# Altium integrated library ON Semi Signal Management Digital POTs.IntLib: 284 symbols (part 9 of 11)
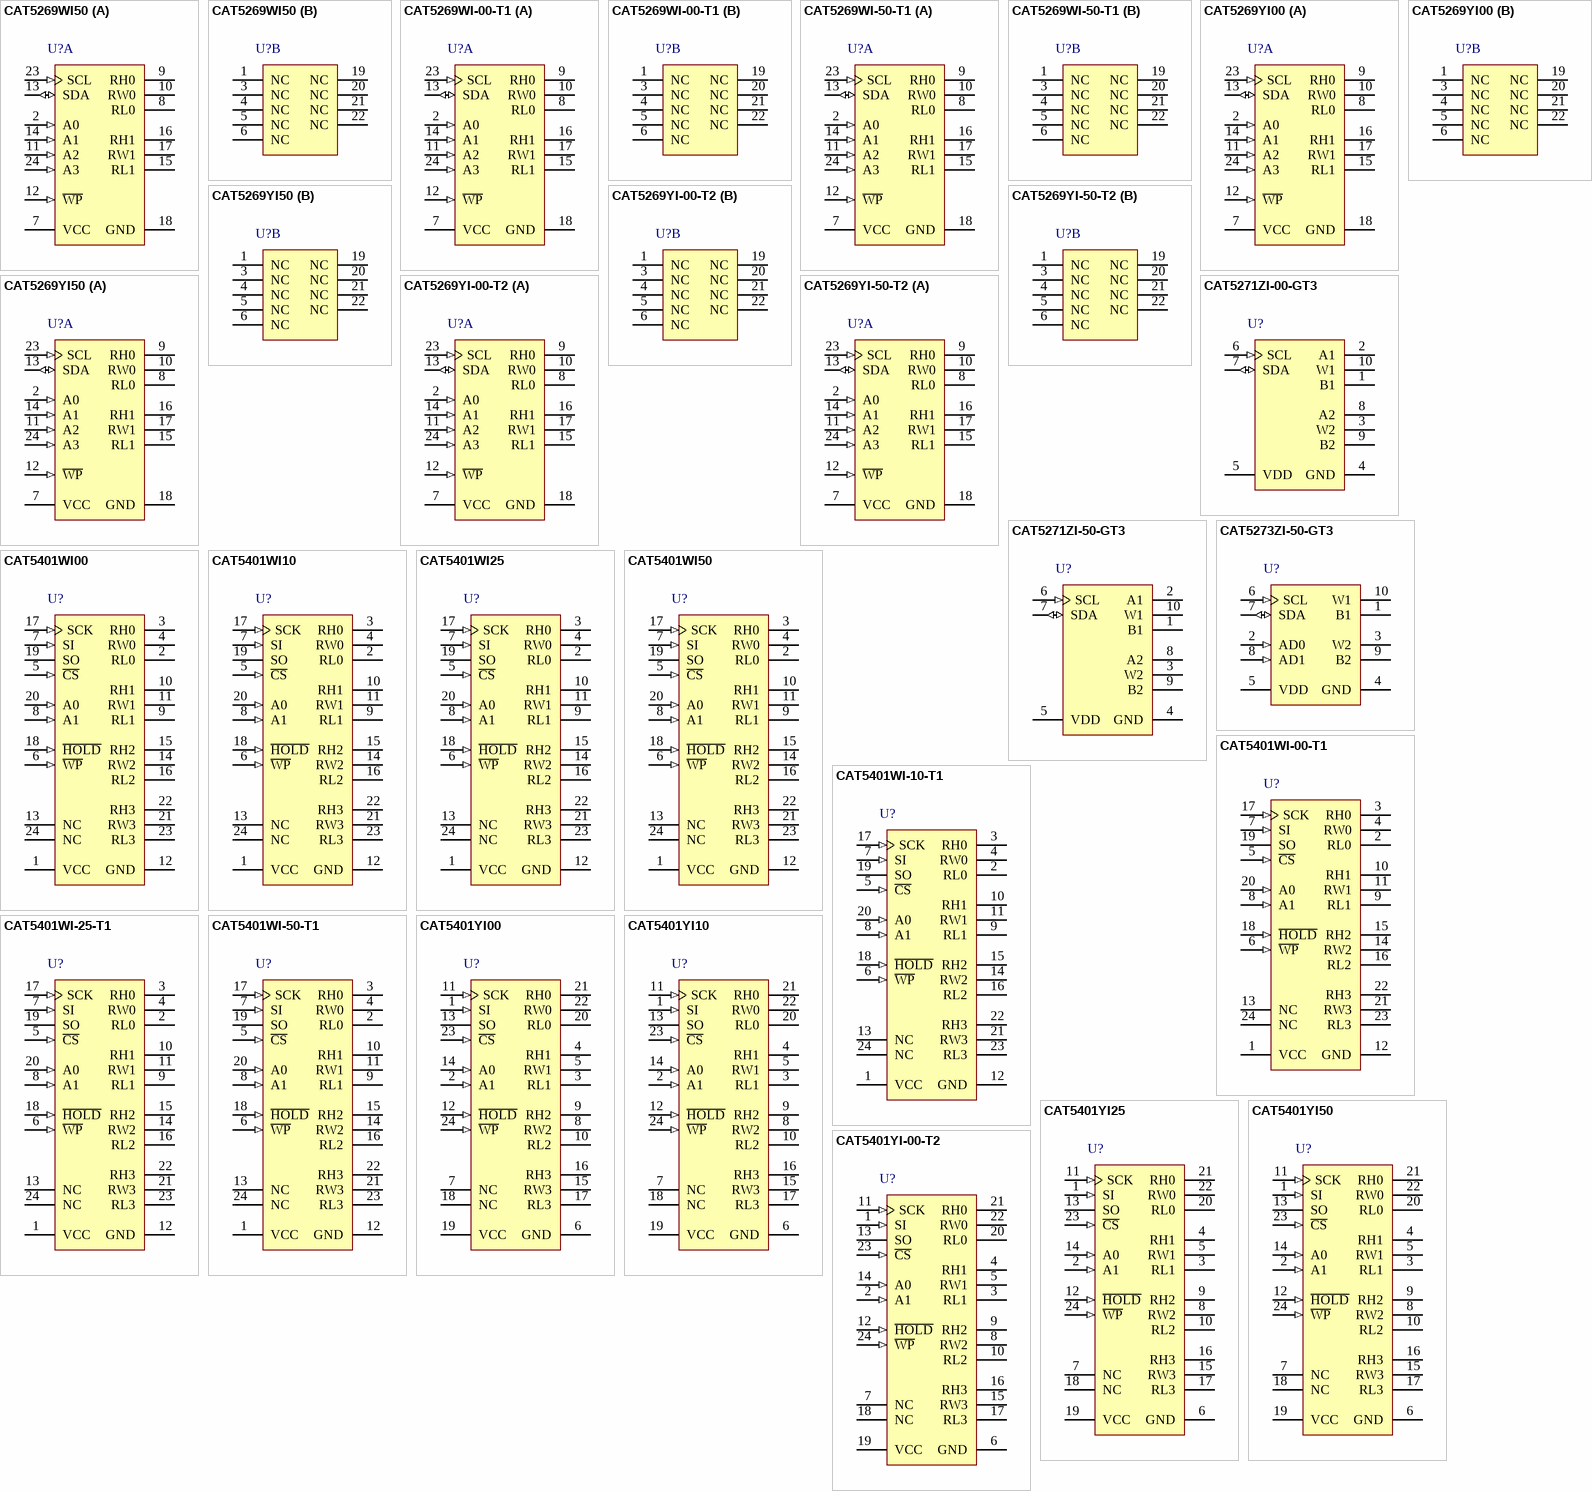
[diagram p17: symbols CAT5269WI50 to CAT5401YI-00-T2]

## CAT5401WI-10-T1
designator U?
Quad Digital Potentiometer (POT) with 64 Tap and SPI Interface, -40 to 85 degC, 24-Pin SOIC, Pb-Free, Tape and Reel; Manufacturer: On Semiconductor; PartNumber: CAT5401WI-10-T1; # of Pots: 4; # of Taps: 64; VDD Max (V): 6; DatasheetVersion: Rev. 11; PackageVersion: Rev. O, 12/2008; PackageReference: SOIC-24-751BK-01; PackageDescription: 24-Pin Small Outline Integrated Circuit, Body 15.3 x 7.47 mm, Pitch 1.27 mm; Supplier 1: Digi-Key; Supplier Part Number 1: CAT5401WI-10-T1CT-ND; Supplier 2: Digi-Key; Supplier Part Number 2: CAT5401WI-10-T1DKR-ND; Supplier 3: Mouser; Supplier Part Number 3: 863-CAT5401WI-10-T1; Control Interface: SPI; Packing: Tape and Reel; RoHS: TRUE; Type: Potentiometer; Mounting Technology: Surface Mount; Code_JEDEC: MS-013; ComponentLink1Description: Manufacturer URL; ComponentLink1URL: http://www.onsemi.com/; ComponentLink2Description: Datasheet; ComponentLink2URL: http://www.onsemi.cn/pub_link/Collateral/CAT5401-D.PDF; ComponentLink3Description: Package Specification; ComponentLink3URL: http://www.onsemi.com/pub/Collateral/751BK.PDF
footprint ONSC-SOIC-24-751BK-01_N (SOIC, 24-Leads, Body 15.4x7.6mm, Pitch 1.27mm, IPC Medium Density)
footprint ONSC-SOIC-24-751BK-01_L (SOIC, 24-Leads, Body 15.4x7.6mm, Pitch 1.27mm, IPC High Density)
footprint ONSC-SOIC-24-751BK-01_M (SOIC, 24-Leads, Body 15.4x7.6mm, Pitch 1.27mm, IPC Low Density)
pins: 1 VCC (power) "Supply Voltage", 2 RL0 "Low Reference Terminal for Potentiometer 0", 3 RH0 "High Reference Terminal for Potentiometer 0", 4 RW0 "Wiper Terminal for Potentiometer 0", 5 ~{CS} (in) "Chip Select", 6 ~{WP} (in) "Write Protection", 7 SI (in) "Serial Input", 8 A1 (in) "Device Address", 9 RL1 "Low Reference Terminal for Potentiometer 1", 10 RH1 "High Reference Terminal for Potentiometer 1", 11 RW1 "Wiper Terminal for Potentiometer 1", 12 GND (power) "Ground", 13 NC "No Connect", 14 RW2 "Wiper Terminal forPotentiometer 2", 15 RH2 "High Reference Terminal for Potentiometer 2", 16 RL2 "Low Reference Terminal for Potentiometer 2", 17 SCK (in) "Bus Serial Clock", 18 ~{HOLD} (in) "Hold", 19 SO (hiz) "Serial Data Output", 20 A0 (in) "Device Address, LSB", 21 RW3 "Wiper Terminal for Potentiometer 3", 22 RH3 "High Reference Terminal for Potentiometer 3", 23 RL3 "Low Reference Terminal for Potentiometer 3", 24 NC "No Connect"

## CAT5401WI-25-T1
designator U?
Quad Digital Potentiometer (POT) with 64 Tap and SPI Interface, -40 to 85 degC, 24-Pin SOIC, Pb-Free, Tape and Reel; Manufacturer: On Semiconductor; PartNumber: CAT5401WI-25-T1; # of Pots: 4; # of Taps: 64; VDD Max (V): 6; DatasheetVersion: Rev. 11; PackageVersion: Rev. O, 12/2008; PackageReference: SOIC-24-751BK-01; PackageDescription: 24-Pin Small Outline Integrated Circuit, Body 15.3 x 7.47 mm, Pitch 1.27 mm; Supplier 1: Digi-Key; Supplier Part Number 1: CAT5401WI-25-T1-ND; Supplier 2: Mouser; Supplier Part Number 2: 698-CAT5401WI-25-T1; Control Interface: SPI; Packing: Tape and Reel; RoHS: TRUE; Type: Potentiometer; Mounting Technology: Surface Mount; Code_JEDEC: MS-013; ComponentLink1Description: Manufacturer URL; ComponentLink1URL: http://www.onsemi.com/; ComponentLink2Description: Datasheet; ComponentLink2URL: http://www.onsemi.cn/pub_link/Collateral/CAT5401-D.PDF; ComponentLink3Description: Package Specification; ComponentLink3URL: http://www.onsemi.com/pub/Collateral/751BK.PDF
footprint ONSC-SOIC-24-751BK-01_N (SOIC, 24-Leads, Body 15.4x7.6mm, Pitch 1.27mm, IPC Medium Density)
footprint ONSC-SOIC-24-751BK-01_L (SOIC, 24-Leads, Body 15.4x7.6mm, Pitch 1.27mm, IPC High Density)
footprint ONSC-SOIC-24-751BK-01_M (SOIC, 24-Leads, Body 15.4x7.6mm, Pitch 1.27mm, IPC Low Density)
pins: 1 VCC (power) "Supply Voltage", 2 RL0 "Low Reference Terminal for Potentiometer 0", 3 RH0 "High Reference Terminal for Potentiometer 0", 4 RW0 "Wiper Terminal for Potentiometer 0", 5 ~{CS} (in) "Chip Select", 6 ~{WP} (in) "Write Protection", 7 SI (in) "Serial Input", 8 A1 (in) "Device Address", 9 RL1 "Low Reference Terminal for Potentiometer 1", 10 RH1 "High Reference Terminal for Potentiometer 1", 11 RW1 "Wiper Terminal for Potentiometer 1", 12 GND (power) "Ground", 13 NC "No Connect", 14 RW2 "Wiper Terminal forPotentiometer 2", 15 RH2 "High Reference Terminal for Potentiometer 2", 16 RL2 "Low Reference Terminal for Potentiometer 2", 17 SCK (in) "Bus Serial Clock", 18 ~{HOLD} (in) "Hold", 19 SO (hiz) "Serial Data Output", 20 A0 (in) "Device Address, LSB", 21 RW3 "Wiper Terminal for Potentiometer 3", 22 RH3 "High Reference Terminal for Potentiometer 3", 23 RL3 "Low Reference Terminal for Potentiometer 3", 24 NC "No Connect"

## CAT5401WI-50-T1
designator U?
Quad Digital Potentiometer (POT) with 64 Tap and SPI Interface, -40 to 85 degC, 24-Pin SOIC, Pb-Free, Tape and Reel; Manufacturer: On Semiconductor; PartNumber: CAT5401WI-50-T1; # of Pots: 4; # of Taps: 64; VDD Max (V): 6; DatasheetVersion: Rev. 11; PackageVersion: Rev. O, 12/2008; PackageReference: SOIC-24-751BK-01; PackageDescription: 24-Pin Small Outline Integrated Circuit, Body 15.3 x 7.47 mm, Pitch 1.27 mm; Supplier 1: Digi-Key; Supplier Part Number 1: CAT5401WI-50-T1-ND; Supplier 2: Mouser; Supplier Part Number 2: 863-CAT5401WI-50-T1; Control Interface: SPI; Packing: Tape and Reel; RoHS: TRUE; Type: Potentiometer; Mounting Technology: Surface Mount; Code_JEDEC: MS-013; ComponentLink1Description: Manufacturer URL; ComponentLink1URL: http://www.onsemi.com/; ComponentLink2Description: Datasheet; ComponentLink2URL: http://www.onsemi.cn/pub_link/Collateral/CAT5401-D.PDF; ComponentLink3Description: Package Specification; ComponentLink3URL: http://www.onsemi.com/pub/Collateral/751BK.PDF
footprint ONSC-SOIC-24-751BK-01_N (SOIC, 24-Leads, Body 15.4x7.6mm, Pitch 1.27mm, IPC Medium Density)
footprint ONSC-SOIC-24-751BK-01_L (SOIC, 24-Leads, Body 15.4x7.6mm, Pitch 1.27mm, IPC High Density)
footprint ONSC-SOIC-24-751BK-01_M (SOIC, 24-Leads, Body 15.4x7.6mm, Pitch 1.27mm, IPC Low Density)
pins: 1 VCC (power) "Supply Voltage", 2 RL0 "Low Reference Terminal for Potentiometer 0", 3 RH0 "High Reference Terminal for Potentiometer 0", 4 RW0 "Wiper Terminal for Potentiometer 0", 5 ~{CS} (in) "Chip Select", 6 ~{WP} (in) "Write Protection", 7 SI (in) "Serial Input", 8 A1 (in) "Device Address", 9 RL1 "Low Reference Terminal for Potentiometer 1", 10 RH1 "High Reference Terminal for Potentiometer 1", 11 RW1 "Wiper Terminal for Potentiometer 1", 12 GND (power) "Ground", 13 NC "No Connect", 14 RW2 "Wiper Terminal forPotentiometer 2", 15 RH2 "High Reference Terminal for Potentiometer 2", 16 RL2 "Low Reference Terminal for Potentiometer 2", 17 SCK (in) "Bus Serial Clock", 18 ~{HOLD} (in) "Hold", 19 SO (hiz) "Serial Data Output", 20 A0 (in) "Device Address, LSB", 21 RW3 "Wiper Terminal for Potentiometer 3", 22 RH3 "High Reference Terminal for Potentiometer 3", 23 RL3 "Low Reference Terminal for Potentiometer 3", 24 NC "No Connect"

## CAT5401YI00
designator U?
Quad Digital Potentiometer (POT) with 64 Tap and SPI Interface, -40 to 85 degC, 24-Pin TSSOP, Pb-Free, Tube; Manufacturer: On Semiconductor; PartNumber: CAT5401YI00; # of Pots: 4; # of Taps: 64; VDD Max (V): 6; DatasheetVersion: Rev. 11; PackageVersion: Rev. A, 03/2009; PackageReference: TSSOP-24-948AR-01; PackageDescription: 24-Pin Small Outline Package, Body 7.8 x 4.4 mm, Pitch 0.65 mm; Supplier 1: Mouser; Supplier Part Number 1: 698-CAT5401YI-00; Control Interface: SPI; Packing: Tube; RoHS: TRUE; Type: Potentiometer; Mounting Technology: Surface Mount; Code_JEDEC: MO-153; ComponentLink1Description: Manufacturer URL; ComponentLink1URL: http://www.onsemi.com/; ComponentLink2Description: Datasheet; ComponentLink2URL: http://www.onsemi.cn/pub_link/Collateral/CAT5401-D.PDF; ComponentLink3Description: Package Specification; ComponentLink3URL: http://www.onsemi.com/pub_link/Collateral/948AR.PDF
footprint ONSC-TSSOP-24-948AR-01_N (SOP, 24-Leads, Body 7.9x4.5mm, Pitch 0.65mm, IPC Medium Density)
footprint ONSC-TSSOP-24-948AR-01_L (SOP, 24-Leads, Body 7.9x4.5mm, Pitch 0.65mm, IPC High Density)
footprint ONSC-TSSOP-24-948AR-01_M (SOP, 24-Leads, Body 7.9x4.5mm, Pitch 0.65mm, IPC Low Density)
pins: 1 SI (in) "Serial Input", 2 A1 (in) "Device Address", 3 RL1 "Low Reference Terminal for Potentiometer 1", 4 RH1 "High Reference Terminal for Potentiometer 1", 5 RW1 "Wiper Terminal for Potentiometer 1", 6 GND (power) "Ground", 7 NC "No Connect", 8 RW2 "Wiper Terminal forPotentiometer 2", 9 RH2 "High Reference Terminal for Potentiometer 2", 10 RL2 "Low Reference Terminal for Potentiometer 2", 11 SCK (in) "Bus Serial Clock", 12 ~{HOLD} (in) "Hold", 13 SO (hiz) "Serial Data Output", 14 A0 (in) "Device Address, LSB", 15 RW3 "Wiper Terminal for Potentiometer 3", 16 RH3 "High Reference Terminal for Potentiometer 3", 17 RL3 "Low Reference Terminal for Potentiometer 3", 18 NC "No Connect", 19 VCC (power) "Supply Voltage", 20 RL0 "Low Reference Terminal for Potentiometer 0", 21 RH0 "High Reference Terminal for Potentiometer 0", 22 RW0 "Wiper Terminal for Potentiometer 0", 23 ~{CS} (in) "Chip Select", 24 ~{WP} (in) "Write Protection"

## CAT5401YI10
designator U?
Quad Digital Potentiometer (POT) with 64 Tap and SPI Interface, -40 to 85 degC, 24-Pin TSSOP, Pb-Free, Tube; Manufacturer: On Semiconductor; PartNumber: CAT5401YI10; # of Pots: 4; # of Taps: 64; VDD Max (V): 6; DatasheetVersion: Rev. 11; PackageVersion: Rev. A, 03/2009; PackageReference: TSSOP-24-948AR-01; PackageDescription: 24-Pin Small Outline Package, Body 7.8 x 4.4 mm, Pitch 0.65 mm; Supplier 1: Mouser; Supplier Part Number 1: 698-CAT5401YI-10; Control Interface: SPI; Packing: Tube; RoHS: TRUE; Type: Potentiometer; Mounting Technology: Surface Mount; Code_JEDEC: MO-153; ComponentLink1Description: Manufacturer URL; ComponentLink1URL: http://www.onsemi.com/; ComponentLink2Description: Datasheet; ComponentLink2URL: http://www.onsemi.cn/pub_link/Collateral/CAT5401-D.PDF; ComponentLink3Description: Package Specification; ComponentLink3URL: http://www.onsemi.com/pub_link/Collateral/948AR.PDF
footprint ONSC-TSSOP-24-948AR-01_N (SOP, 24-Leads, Body 7.9x4.5mm, Pitch 0.65mm, IPC Medium Density)
footprint ONSC-TSSOP-24-948AR-01_L (SOP, 24-Leads, Body 7.9x4.5mm, Pitch 0.65mm, IPC High Density)
footprint ONSC-TSSOP-24-948AR-01_M (SOP, 24-Leads, Body 7.9x4.5mm, Pitch 0.65mm, IPC Low Density)
pins: 1 SI (in) "Serial Input", 2 A1 (in) "Device Address", 3 RL1 "Low Reference Terminal for Potentiometer 1", 4 RH1 "High Reference Terminal for Potentiometer 1", 5 RW1 "Wiper Terminal for Potentiometer 1", 6 GND (power) "Ground", 7 NC "No Connect", 8 RW2 "Wiper Terminal forPotentiometer 2", 9 RH2 "High Reference Terminal for Potentiometer 2", 10 RL2 "Low Reference Terminal for Potentiometer 2", 11 SCK (in) "Bus Serial Clock", 12 ~{HOLD} (in) "Hold", 13 SO (hiz) "Serial Data Output", 14 A0 (in) "Device Address, LSB", 15 RW3 "Wiper Terminal for Potentiometer 3", 16 RH3 "High Reference Terminal for Potentiometer 3", 17 RL3 "Low Reference Terminal for Potentiometer 3", 18 NC "No Connect", 19 VCC (power) "Supply Voltage", 20 RL0 "Low Reference Terminal for Potentiometer 0", 21 RH0 "High Reference Terminal for Potentiometer 0", 22 RW0 "Wiper Terminal for Potentiometer 0", 23 ~{CS} (in) "Chip Select", 24 ~{WP} (in) "Write Protection"

## CAT5401YI25
designator U?
Quad Digital Potentiometer (POT) with 64 Tap and SPI Interface, -40 to 85 degC, 24-Pin TSSOP, Pb-Free, Tube; Manufacturer: On Semiconductor; PartNumber: CAT5401YI25; # of Pots: 4; # of Taps: 64; VDD Max (V): 6; DatasheetVersion: Rev. 11; PackageVersion: Rev. A, 03/2009; PackageReference: TSSOP-24-948AR-01; PackageDescription: 24-Pin Small Outline Package, Body 7.8 x 4.4 mm, Pitch 0.65 mm; Supplier 1: Mouser; Supplier Part Number 1: 698-CAT5401YI-25; Control Interface: SPI; Packing: Tube; RoHS: TRUE; Type: Potentiometer; Mounting Technology: Surface Mount; Code_JEDEC: MO-153; ComponentLink1Description: Manufacturer URL; ComponentLink1URL: http://www.onsemi.com/; ComponentLink2Description: Datasheet; ComponentLink2URL: http://www.onsemi.cn/pub_link/Collateral/CAT5401-D.PDF; ComponentLink3Description: Package Specification; ComponentLink3URL: http://www.onsemi.com/pub_link/Collateral/948AR.PDF
footprint ONSC-TSSOP-24-948AR-01_N (SOP, 24-Leads, Body 7.9x4.5mm, Pitch 0.65mm, IPC Medium Density)
footprint ONSC-TSSOP-24-948AR-01_L (SOP, 24-Leads, Body 7.9x4.5mm, Pitch 0.65mm, IPC High Density)
footprint ONSC-TSSOP-24-948AR-01_M (SOP, 24-Leads, Body 7.9x4.5mm, Pitch 0.65mm, IPC Low Density)
pins: 1 SI (in) "Serial Input", 2 A1 (in) "Device Address", 3 RL1 "Low Reference Terminal for Potentiometer 1", 4 RH1 "High Reference Terminal for Potentiometer 1", 5 RW1 "Wiper Terminal for Potentiometer 1", 6 GND (power) "Ground", 7 NC "No Connect", 8 RW2 "Wiper Terminal forPotentiometer 2", 9 RH2 "High Reference Terminal for Potentiometer 2", 10 RL2 "Low Reference Terminal for Potentiometer 2", 11 SCK (in) "Bus Serial Clock", 12 ~{HOLD} (in) "Hold", 13 SO (hiz) "Serial Data Output", 14 A0 (in) "Device Address, LSB", 15 RW3 "Wiper Terminal for Potentiometer 3", 16 RH3 "High Reference Terminal for Potentiometer 3", 17 RL3 "Low Reference Terminal for Potentiometer 3", 18 NC "No Connect", 19 VCC (power) "Supply Voltage", 20 RL0 "Low Reference Terminal for Potentiometer 0", 21 RH0 "High Reference Terminal for Potentiometer 0", 22 RW0 "Wiper Terminal for Potentiometer 0", 23 ~{CS} (in) "Chip Select", 24 ~{WP} (in) "Write Protection"

## CAT5401YI50
designator U?
Quad Digital Potentiometer (POT) with 64 Tap and SPI Interface, -40 to 85 degC, 24-Pin TSSOP, Pb-Free, Tube; Manufacturer: On Semiconductor; PartNumber: CAT5401YI50; # of Pots: 4; # of Taps: 64; VDD Max (V): 6; DatasheetVersion: Rev. 11; PackageVersion: Rev. A, 03/2009; PackageReference: TSSOP-24-948AR-01; PackageDescription: 24-Pin Small Outline Package, Body 7.8 x 4.4 mm, Pitch 0.65 mm; Supplier 1: Mouser; Supplier Part Number 1: 698-CAT5401YI-50; Control Interface: SPI; Packing: Tube; RoHS: TRUE; Type: Potentiometer; Mounting Technology: Surface Mount; Code_JEDEC: MO-153; ComponentLink1Description: Manufacturer URL; ComponentLink1URL: http://www.onsemi.com/; ComponentLink2Description: Datasheet; ComponentLink2URL: http://www.onsemi.cn/pub_link/Collateral/CAT5401-D.PDF; ComponentLink3Description: Package Specification; ComponentLink3URL: http://www.onsemi.com/pub_link/Collateral/948AR.PDF
footprint ONSC-TSSOP-24-948AR-01_N (SOP, 24-Leads, Body 7.9x4.5mm, Pitch 0.65mm, IPC Medium Density)
footprint ONSC-TSSOP-24-948AR-01_L (SOP, 24-Leads, Body 7.9x4.5mm, Pitch 0.65mm, IPC High Density)
footprint ONSC-TSSOP-24-948AR-01_M (SOP, 24-Leads, Body 7.9x4.5mm, Pitch 0.65mm, IPC Low Density)
pins: 1 SI (in) "Serial Input", 2 A1 (in) "Device Address", 3 RL1 "Low Reference Terminal for Potentiometer 1", 4 RH1 "High Reference Terminal for Potentiometer 1", 5 RW1 "Wiper Terminal for Potentiometer 1", 6 GND (power) "Ground", 7 NC "No Connect", 8 RW2 "Wiper Terminal forPotentiometer 2", 9 RH2 "High Reference Terminal for Potentiometer 2", 10 RL2 "Low Reference Terminal for Potentiometer 2", 11 SCK (in) "Bus Serial Clock", 12 ~{HOLD} (in) "Hold", 13 SO (hiz) "Serial Data Output", 14 A0 (in) "Device Address, LSB", 15 RW3 "Wiper Terminal for Potentiometer 3", 16 RH3 "High Reference Terminal for Potentiometer 3", 17 RL3 "Low Reference Terminal for Potentiometer 3", 18 NC "No Connect", 19 VCC (power) "Supply Voltage", 20 RL0 "Low Reference Terminal for Potentiometer 0", 21 RH0 "High Reference Terminal for Potentiometer 0", 22 RW0 "Wiper Terminal for Potentiometer 0", 23 ~{CS} (in) "Chip Select", 24 ~{WP} (in) "Write Protection"

## CAT5401YI-00-T2
designator U?
Quad Digital Potentiometer (POT) with 64 Tap and SPI Interface, -40 to 85 degC, 24-Pin TSSOP, Pb-Free, Tape and Reel; Manufacturer: On Semiconductor; PartNumber: CAT5401YI-00-T2; # of Pots: 4; # of Taps: 64; VDD Max (V): 6; DatasheetVersion: Rev. 11; PackageVersion: Rev. A, 03/2009; PackageReference: TSSOP-24-948AR-01; PackageDescription: 24-Pin Small Outline Package, Body 7.8 x 4.4 mm, Pitch 0.65 mm; Supplier 1: Digi-Key; Supplier Part Number 1: CAT5401YI-00-T2-ND; Supplier 2: Mouser; Supplier Part Number 2: 698-CAT5401YI-00-T2; Control Interface: SPI; Packing: Tape and Reel; RoHS: TRUE; Type: Potentiometer; Mounting Technology: Surface Mount; Code_JEDEC: MO-153; ComponentLink1Description: Manufacturer URL; ComponentLink1URL: http://www.onsemi.com/; ComponentLink2Description: Datasheet; ComponentLink2URL: http://www.onsemi.cn/pub_link/Collateral/CAT5401-D.PDF; ComponentLink3Description: Package Specification; ComponentLink3URL: http://www.onsemi.com/pub_link/Collateral/948AR.PDF
footprint ONSC-TSSOP-24-948AR-01_N (SOP, 24-Leads, Body 7.9x4.5mm, Pitch 0.65mm, IPC Medium Density)
footprint ONSC-TSSOP-24-948AR-01_L (SOP, 24-Leads, Body 7.9x4.5mm, Pitch 0.65mm, IPC High Density)
footprint ONSC-TSSOP-24-948AR-01_M (SOP, 24-Leads, Body 7.9x4.5mm, Pitch 0.65mm, IPC Low Density)
pins: 1 SI (in) "Serial Input", 2 A1 (in) "Device Address", 3 RL1 "Low Reference Terminal for Potentiometer 1", 4 RH1 "High Reference Terminal for Potentiometer 1", 5 RW1 "Wiper Terminal for Potentiometer 1", 6 GND (power) "Ground", 7 NC "No Connect", 8 RW2 "Wiper Terminal forPotentiometer 2", 9 RH2 "High Reference Terminal for Potentiometer 2", 10 RL2 "Low Reference Terminal for Potentiometer 2", 11 SCK (in) "Bus Serial Clock", 12 ~{HOLD} (in) "Hold", 13 SO (hiz) "Serial Data Output", 14 A0 (in) "Device Address, LSB", 15 RW3 "Wiper Terminal for Potentiometer 3", 16 RH3 "High Reference Terminal for Potentiometer 3", 17 RL3 "Low Reference Terminal for Potentiometer 3", 18 NC "No Connect", 19 VCC (power) "Supply Voltage", 20 RL0 "Low Reference Terminal for Potentiometer 0", 21 RH0 "High Reference Terminal for Potentiometer 0", 22 RW0 "Wiper Terminal for Potentiometer 0", 23 ~{CS} (in) "Chip Select", 24 ~{WP} (in) "Write Protection"

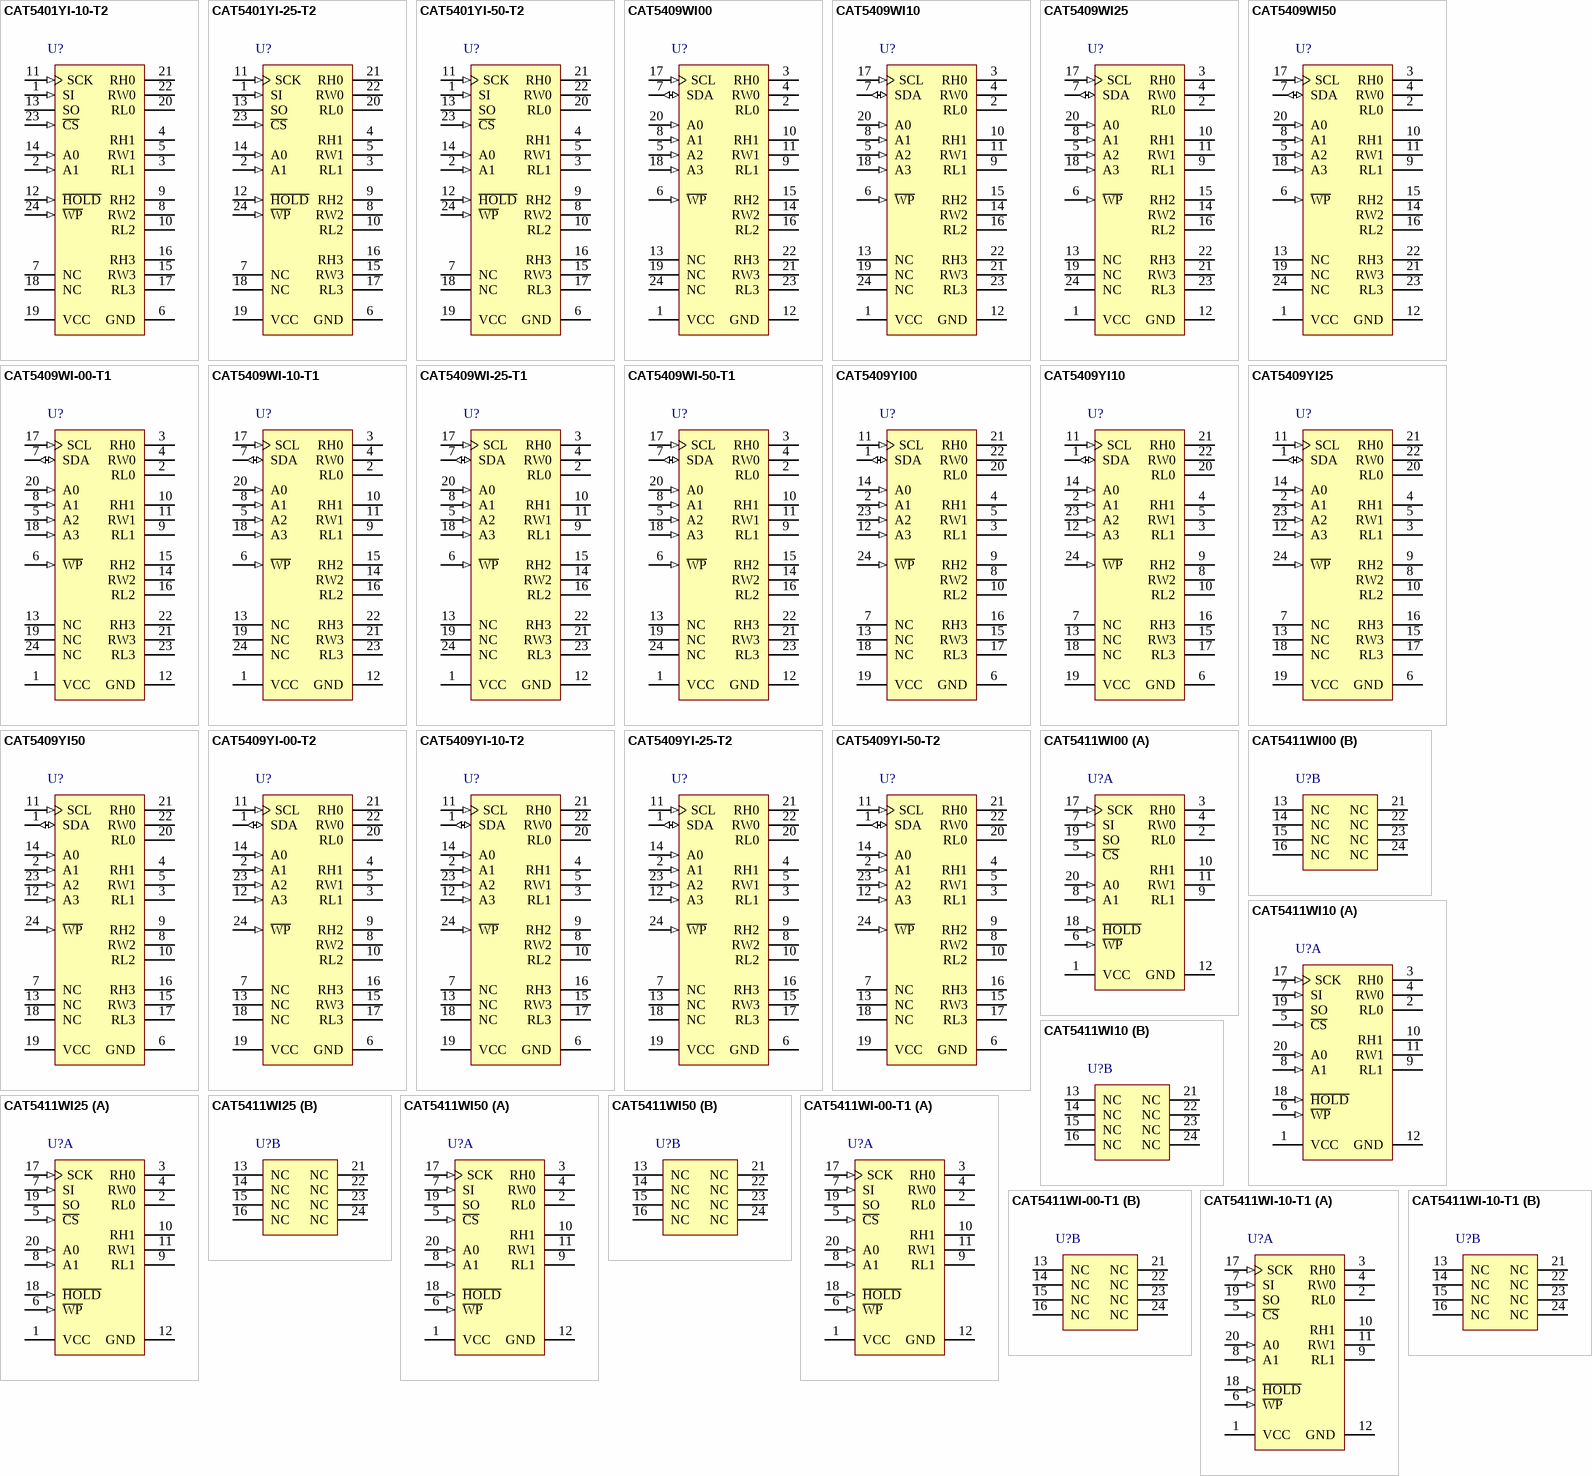
[diagram p7: symbols CAT5401YI-10-T2 to CAT5411WI-10-T1]

## CAT5401YI-10-T2
designator U?
Quad Digital Potentiometer (POT) with 64 Tap and SPI Interface, -40 to 85 degC, 24-Pin TSSOP, Pb-Free, Tape and Reel; Manufacturer: On Semiconductor; PartNumber: CAT5401YI-10-T2; # of Pots: 4; # of Taps: 64; VDD Max (V): 6; DatasheetVersion: Rev. 11; PackageVersion: Rev. A, 03/2009; PackageReference: TSSOP-24-948AR-01; PackageDescription: 24-Pin Small Outline Package, Body 7.8 x 4.4 mm, Pitch 0.65 mm; Supplier 1: Digi-Key; Supplier Part Number 1: CAT5401YI-10-T2-ND; Supplier 2: Mouser; Supplier Part Number 2: 698-CAT5401YI-10-T2; Control Interface: SPI; Packing: Tape and Reel; RoHS: TRUE; Type: Potentiometer; Mounting Technology: Surface Mount; Code_JEDEC: MO-153; ComponentLink1Description: Manufacturer URL; ComponentLink1URL: http://www.onsemi.com/; ComponentLink2Description: Datasheet; ComponentLink2URL: http://www.onsemi.cn/pub_link/Collateral/CAT5401-D.PDF; ComponentLink3Description: Package Specification; ComponentLink3URL: http://www.onsemi.com/pub_link/Collateral/948AR.PDF
footprint ONSC-TSSOP-24-948AR-01_N (SOP, 24-Leads, Body 7.9x4.5mm, Pitch 0.65mm, IPC Medium Density)
footprint ONSC-TSSOP-24-948AR-01_L (SOP, 24-Leads, Body 7.9x4.5mm, Pitch 0.65mm, IPC High Density)
footprint ONSC-TSSOP-24-948AR-01_M (SOP, 24-Leads, Body 7.9x4.5mm, Pitch 0.65mm, IPC Low Density)
pins: 1 SI (in) "Serial Input", 2 A1 (in) "Device Address", 3 RL1 "Low Reference Terminal for Potentiometer 1", 4 RH1 "High Reference Terminal for Potentiometer 1", 5 RW1 "Wiper Terminal for Potentiometer 1", 6 GND (power) "Ground", 7 NC "No Connect", 8 RW2 "Wiper Terminal forPotentiometer 2", 9 RH2 "High Reference Terminal for Potentiometer 2", 10 RL2 "Low Reference Terminal for Potentiometer 2", 11 SCK (in) "Bus Serial Clock", 12 ~{HOLD} (in) "Hold", 13 SO (hiz) "Serial Data Output", 14 A0 (in) "Device Address, LSB", 15 RW3 "Wiper Terminal for Potentiometer 3", 16 RH3 "High Reference Terminal for Potentiometer 3", 17 RL3 "Low Reference Terminal for Potentiometer 3", 18 NC "No Connect", 19 VCC (power) "Supply Voltage", 20 RL0 "Low Reference Terminal for Potentiometer 0", 21 RH0 "High Reference Terminal for Potentiometer 0", 22 RW0 "Wiper Terminal for Potentiometer 0", 23 ~{CS} (in) "Chip Select", 24 ~{WP} (in) "Write Protection"

## CAT5401YI-25-T2
designator U?
Quad Digital Potentiometer (POT) with 64 Tap and SPI Interface, -40 to 85 degC, 24-Pin TSSOP, Pb-Free, Tape and Reel; Manufacturer: On Semiconductor; PartNumber: CAT5401YI-25-T2; # of Pots: 4; # of Taps: 64; VDD Max (V): 6; DatasheetVersion: Rev. 11; PackageVersion: Rev. A, 03/2009; PackageReference: TSSOP-24-948AR-01; PackageDescription: 24-Pin Small Outline Package, Body 7.8 x 4.4 mm, Pitch 0.65 mm; Supplier 1: Digi-Key; Supplier Part Number 1: CAT5401YI-25-T2-ND; Supplier 2: Mouser; Supplier Part Number 2: 698-CAT5401YI-25-T2; Control Interface: SPI; Packing: Tape and Reel; RoHS: TRUE; Type: Potentiometer; Mounting Technology: Surface Mount; Code_JEDEC: MO-153; ComponentLink1Description: Manufacturer URL; ComponentLink1URL: http://www.onsemi.com/; ComponentLink2Description: Datasheet; ComponentLink2URL: http://www.onsemi.cn/pub_link/Collateral/CAT5401-D.PDF; ComponentLink3Description: Package Specification; ComponentLink3URL: http://www.onsemi.com/pub_link/Collateral/948AR.PDF
footprint ONSC-TSSOP-24-948AR-01_N (SOP, 24-Leads, Body 7.9x4.5mm, Pitch 0.65mm, IPC Medium Density)
footprint ONSC-TSSOP-24-948AR-01_L (SOP, 24-Leads, Body 7.9x4.5mm, Pitch 0.65mm, IPC High Density)
footprint ONSC-TSSOP-24-948AR-01_M (SOP, 24-Leads, Body 7.9x4.5mm, Pitch 0.65mm, IPC Low Density)
pins: 1 SI (in) "Serial Input", 2 A1 (in) "Device Address", 3 RL1 "Low Reference Terminal for Potentiometer 1", 4 RH1 "High Reference Terminal for Potentiometer 1", 5 RW1 "Wiper Terminal for Potentiometer 1", 6 GND (power) "Ground", 7 NC "No Connect", 8 RW2 "Wiper Terminal forPotentiometer 2", 9 RH2 "High Reference Terminal for Potentiometer 2", 10 RL2 "Low Reference Terminal for Potentiometer 2", 11 SCK (in) "Bus Serial Clock", 12 ~{HOLD} (in) "Hold", 13 SO (hiz) "Serial Data Output", 14 A0 (in) "Device Address, LSB", 15 RW3 "Wiper Terminal for Potentiometer 3", 16 RH3 "High Reference Terminal for Potentiometer 3", 17 RL3 "Low Reference Terminal for Potentiometer 3", 18 NC "No Connect", 19 VCC (power) "Supply Voltage", 20 RL0 "Low Reference Terminal for Potentiometer 0", 21 RH0 "High Reference Terminal for Potentiometer 0", 22 RW0 "Wiper Terminal for Potentiometer 0", 23 ~{CS} (in) "Chip Select", 24 ~{WP} (in) "Write Protection"

## CAT5401YI-50-T2
designator U?
Quad Digital Potentiometer (POT) with 64 Tap and SPI Interface, -40 to 85 degC, 24-Pin TSSOP, Pb-Free, Tape and Reel; Manufacturer: On Semiconductor; PartNumber: CAT5401YI-50-T2; # of Pots: 4; # of Taps: 64; VDD Max (V): 6; DatasheetVersion: Rev. 11; PackageVersion: Rev. A, 03/2009; PackageReference: TSSOP-24-948AR-01; PackageDescription: 24-Pin Small Outline Package, Body 7.8 x 4.4 mm, Pitch 0.65 mm; Supplier 1: Digi-Key; Supplier Part Number 1: CAT5401YI-50-T2-ND; Supplier 2: Mouser; Supplier Part Number 2: 698-CAT5401YI-50-T2; Control Interface: SPI; Packing: Tape and Reel; RoHS: TRUE; Type: Potentiometer; Mounting Technology: Surface Mount; Code_JEDEC: MO-153; ComponentLink1Description: Manufacturer URL; ComponentLink1URL: http://www.onsemi.com/; ComponentLink2Description: Datasheet; ComponentLink2URL: http://www.onsemi.cn/pub_link/Collateral/CAT5401-D.PDF; ComponentLink3Description: Package Specification; ComponentLink3URL: http://www.onsemi.com/pub_link/Collateral/948AR.PDF
footprint ONSC-TSSOP-24-948AR-01_N (SOP, 24-Leads, Body 7.9x4.5mm, Pitch 0.65mm, IPC Medium Density)
footprint ONSC-TSSOP-24-948AR-01_L (SOP, 24-Leads, Body 7.9x4.5mm, Pitch 0.65mm, IPC High Density)
footprint ONSC-TSSOP-24-948AR-01_M (SOP, 24-Leads, Body 7.9x4.5mm, Pitch 0.65mm, IPC Low Density)
pins: 1 SI (in) "Serial Input", 2 A1 (in) "Device Address", 3 RL1 "Low Reference Terminal for Potentiometer 1", 4 RH1 "High Reference Terminal for Potentiometer 1", 5 RW1 "Wiper Terminal for Potentiometer 1", 6 GND (power) "Ground", 7 NC "No Connect", 8 RW2 "Wiper Terminal forPotentiometer 2", 9 RH2 "High Reference Terminal for Potentiometer 2", 10 RL2 "Low Reference Terminal for Potentiometer 2", 11 SCK (in) "Bus Serial Clock", 12 ~{HOLD} (in) "Hold", 13 SO (hiz) "Serial Data Output", 14 A0 (in) "Device Address, LSB", 15 RW3 "Wiper Terminal for Potentiometer 3", 16 RH3 "High Reference Terminal for Potentiometer 3", 17 RL3 "Low Reference Terminal for Potentiometer 3", 18 NC "No Connect", 19 VCC (power) "Supply Voltage", 20 RL0 "Low Reference Terminal for Potentiometer 0", 21 RH0 "High Reference Terminal for Potentiometer 0", 22 RW0 "Wiper Terminal for Potentiometer 0", 23 ~{CS} (in) "Chip Select", 24 ~{WP} (in) "Write Protection"

## CAT5409WI00
designator U?
Quad Digital Potentiometer (POT) with 64 Tap and I2C Interface, -40 to 85 degC, 24-Pin SOIC, Pb-Free, Tube; Manufacturer: On Semiconductor; PartNumber: CAT5409WI00; # of Pots: 4; # of Taps: 64; VDD Max (V): 6; DatasheetVersion: Rev. 15; PackageVersion: Rev. O, 12/2008; PackageReference: SOIC-24-751BK-01; PackageDescription: 24-Pin Small Outline Integrated Circuit, Body 15.3 x 7.47 mm, Pitch 1.27 mm; Supplier 1: Mouser; Supplier Part Number 1: 698-CAT5409WI-00; Control Interface: I2C; Packing: Tube; RoHS: TRUE; Type: Potentiometer; Mounting Technology: Surface Mount; Code_JEDEC: MS-013; ComponentLink1Description: Manufacturer URL; ComponentLink1URL: http://www.onsemi.com/; ComponentLink2Description: Datasheet; ComponentLink2URL: http://www.onsemi.cn/pub_link/Collateral/CAT5409-D.PDF; ComponentLink3Description: Package Specification; ComponentLink3URL: http://www.onsemi.com/pub/Collateral/751BK.PDF
footprint ONSC-SOIC-24-751BK-01_N (SOIC, 24-Leads, Body 15.4x7.6mm, Pitch 1.27mm, IPC Medium Density)
footprint ONSC-SOIC-24-751BK-01_L (SOIC, 24-Leads, Body 15.4x7.6mm, Pitch 1.27mm, IPC High Density)
footprint ONSC-SOIC-24-751BK-01_M (SOIC, 24-Leads, Body 15.4x7.6mm, Pitch 1.27mm, IPC Low Density)
pins: 1 VCC (power) "Supply Voltage", 2 RL0 "Low Reference Terminal for Potentiometer 0", 3 RH0 "High Reference Terminal for Potentiometer 0", 4 RW0 "Wiper Terminal for Potentiometer 0", 5 A2 (in) "Device Address", 6 ~{WP} (in) "Write Protection", 7 SDA (io) "Serial Data Input/Output", 8 A1 (in) "Device Address", 9 RL1 "Low Reference Terminal for Potentiometer 1", 10 RH1 "High Reference Terminal for Potentiometer 1", 11 RW1 "Wiper Terminal for Potentiometer 1", 12 GND (power) "Ground", 13 NC "No Connect", 14 RW2 "Wiper Terminal forPotentiometer 2", 15 RH2 "High Reference Terminal for Potentiometer 2", 16 RL2 "Low Reference Terminal for Potentiometer 2", 17 SCL (in) "Bus Serial Clock", 18 A3 (in) "Device Address", 19 NC "No Connect", 20 A0 (in) "Device Address, LSB", 21 RW3 "Wiper Terminal for Potentiometer 3", 22 RH3 "High Reference Terminal for Potentiometer 3", 23 RL3 "Low Reference Terminal for Potentiometer 3", 24 NC "No Connect"

## CAT5409WI10
designator U?
Quad Digital Potentiometer (POT) with 64 Tap and I2C Interface, -40 to 85 degC, 24-Pin SOIC, Pb-Free, Tube; Manufacturer: On Semiconductor; PartNumber: CAT5409WI10; # of Pots: 4; # of Taps: 64; VDD Max (V): 6; DatasheetVersion: Rev. 15; PackageVersion: Rev. O, 12/2008; PackageReference: SOIC-24-751BK-01; PackageDescription: 24-Pin Small Outline Integrated Circuit, Body 15.3 x 7.47 mm, Pitch 1.27 mm; Supplier 1: Mouser; Supplier Part Number 1: 698-CAT5409WI-10; Control Interface: I2C; Packing: Tube; RoHS: TRUE; Type: Potentiometer; Mounting Technology: Surface Mount; Code_JEDEC: MS-013; ComponentLink1Description: Manufacturer URL; ComponentLink1URL: http://www.onsemi.com/; ComponentLink2Description: Datasheet; ComponentLink2URL: http://www.onsemi.cn/pub_link/Collateral/CAT5409-D.PDF; ComponentLink3Description: Package Specification; ComponentLink3URL: http://www.onsemi.com/pub/Collateral/751BK.PDF
footprint ONSC-SOIC-24-751BK-01_N (SOIC, 24-Leads, Body 15.4x7.6mm, Pitch 1.27mm, IPC Medium Density)
footprint ONSC-SOIC-24-751BK-01_L (SOIC, 24-Leads, Body 15.4x7.6mm, Pitch 1.27mm, IPC High Density)
footprint ONSC-SOIC-24-751BK-01_M (SOIC, 24-Leads, Body 15.4x7.6mm, Pitch 1.27mm, IPC Low Density)
pins: 1 VCC (power) "Supply Voltage", 2 RL0 "Low Reference Terminal for Potentiometer 0", 3 RH0 "High Reference Terminal for Potentiometer 0", 4 RW0 "Wiper Terminal for Potentiometer 0", 5 A2 (in) "Device Address", 6 ~{WP} (in) "Write Protection", 7 SDA (io) "Serial Data Input/Output", 8 A1 (in) "Device Address", 9 RL1 "Low Reference Terminal for Potentiometer 1", 10 RH1 "High Reference Terminal for Potentiometer 1", 11 RW1 "Wiper Terminal for Potentiometer 1", 12 GND (power) "Ground", 13 NC "No Connect", 14 RW2 "Wiper Terminal forPotentiometer 2", 15 RH2 "High Reference Terminal for Potentiometer 2", 16 RL2 "Low Reference Terminal for Potentiometer 2", 17 SCL (in) "Bus Serial Clock", 18 A3 (in) "Device Address", 19 NC "No Connect", 20 A0 (in) "Device Address, LSB", 21 RW3 "Wiper Terminal for Potentiometer 3", 22 RH3 "High Reference Terminal for Potentiometer 3", 23 RL3 "Low Reference Terminal for Potentiometer 3", 24 NC "No Connect"

## CAT5409WI25
designator U?
Quad Digital Potentiometer (POT) with 64 Tap and I2C Interface, -40 to 85 degC, 24-Pin SOIC, Pb-Free, Tube; Manufacturer: On Semiconductor; PartNumber: CAT5409WI25; # of Pots: 4; # of Taps: 64; VDD Max (V): 6; DatasheetVersion: Rev. 15; PackageVersion: Rev. O, 12/2008; PackageReference: SOIC-24-751BK-01; PackageDescription: 24-Pin Small Outline Integrated Circuit, Body 15.3 x 7.47 mm, Pitch 1.27 mm; Control Interface: I2C; Packing: Tube; RoHS: TRUE; Type: Potentiometer; Mounting Technology: Surface Mount; Code_JEDEC: MS-013; ComponentLink1Description: Manufacturer URL; ComponentLink1URL: http://www.onsemi.com/; ComponentLink2Description: Datasheet; ComponentLink2URL: http://www.onsemi.cn/pub_link/Collateral/CAT5409-D.PDF; ComponentLink3Description: Package Specification; ComponentLink3URL: http://www.onsemi.com/pub/Collateral/751BK.PDF
footprint ONSC-SOIC-24-751BK-01_N (SOIC, 24-Leads, Body 15.4x7.6mm, Pitch 1.27mm, IPC Medium Density)
footprint ONSC-SOIC-24-751BK-01_L (SOIC, 24-Leads, Body 15.4x7.6mm, Pitch 1.27mm, IPC High Density)
footprint ONSC-SOIC-24-751BK-01_M (SOIC, 24-Leads, Body 15.4x7.6mm, Pitch 1.27mm, IPC Low Density)
pins: 1 VCC (power) "Supply Voltage", 2 RL0 "Low Reference Terminal for Potentiometer 0", 3 RH0 "High Reference Terminal for Potentiometer 0", 4 RW0 "Wiper Terminal for Potentiometer 0", 5 A2 (in) "Device Address", 6 ~{WP} (in) "Write Protection", 7 SDA (io) "Serial Data Input/Output", 8 A1 (in) "Device Address", 9 RL1 "Low Reference Terminal for Potentiometer 1", 10 RH1 "High Reference Terminal for Potentiometer 1", 11 RW1 "Wiper Terminal for Potentiometer 1", 12 GND (power) "Ground", 13 NC "No Connect", 14 RW2 "Wiper Terminal forPotentiometer 2", 15 RH2 "High Reference Terminal for Potentiometer 2", 16 RL2 "Low Reference Terminal for Potentiometer 2", 17 SCL (in) "Bus Serial Clock", 18 A3 (in) "Device Address", 19 NC "No Connect", 20 A0 (in) "Device Address, LSB", 21 RW3 "Wiper Terminal for Potentiometer 3", 22 RH3 "High Reference Terminal for Potentiometer 3", 23 RL3 "Low Reference Terminal for Potentiometer 3", 24 NC "No Connect"

## CAT5409WI50
designator U?
Quad Digital Potentiometer (POT) with 64 Tap and I2C Interface, -40 to 85 degC, 24-Pin SOIC, Pb-Free, Tube; Manufacturer: On Semiconductor; PartNumber: CAT5409WI50; # of Pots: 4; # of Taps: 64; VDD Max (V): 6; DatasheetVersion: Rev. 15; PackageVersion: Rev. O, 12/2008; PackageReference: SOIC-24-751BK-01; PackageDescription: 24-Pin Small Outline Integrated Circuit, Body 15.3 x 7.47 mm, Pitch 1.27 mm; Supplier 1: Mouser; Supplier Part Number 1: 698-CAT5409WI-50; Control Interface: I2C; Packing: Tube; RoHS: TRUE; Type: Potentiometer; Mounting Technology: Surface Mount; Code_JEDEC: MS-013; ComponentLink1Description: Manufacturer URL; ComponentLink1URL: http://www.onsemi.com/; ComponentLink2Description: Datasheet; ComponentLink2URL: http://www.onsemi.cn/pub_link/Collateral/CAT5409-D.PDF; ComponentLink3Description: Package Specification; ComponentLink3URL: http://www.onsemi.com/pub/Collateral/751BK.PDF
footprint ONSC-SOIC-24-751BK-01_N (SOIC, 24-Leads, Body 15.4x7.6mm, Pitch 1.27mm, IPC Medium Density)
footprint ONSC-SOIC-24-751BK-01_L (SOIC, 24-Leads, Body 15.4x7.6mm, Pitch 1.27mm, IPC High Density)
footprint ONSC-SOIC-24-751BK-01_M (SOIC, 24-Leads, Body 15.4x7.6mm, Pitch 1.27mm, IPC Low Density)
pins: 1 VCC (power) "Supply Voltage", 2 RL0 "Low Reference Terminal for Potentiometer 0", 3 RH0 "High Reference Terminal for Potentiometer 0", 4 RW0 "Wiper Terminal for Potentiometer 0", 5 A2 (in) "Device Address", 6 ~{WP} (in) "Write Protection", 7 SDA (io) "Serial Data Input/Output", 8 A1 (in) "Device Address", 9 RL1 "Low Reference Terminal for Potentiometer 1", 10 RH1 "High Reference Terminal for Potentiometer 1", 11 RW1 "Wiper Terminal for Potentiometer 1", 12 GND (power) "Ground", 13 NC "No Connect", 14 RW2 "Wiper Terminal forPotentiometer 2", 15 RH2 "High Reference Terminal for Potentiometer 2", 16 RL2 "Low Reference Terminal for Potentiometer 2", 17 SCL (in) "Bus Serial Clock", 18 A3 (in) "Device Address", 19 NC "No Connect", 20 A0 (in) "Device Address, LSB", 21 RW3 "Wiper Terminal for Potentiometer 3", 22 RH3 "High Reference Terminal for Potentiometer 3", 23 RL3 "Low Reference Terminal for Potentiometer 3", 24 NC "No Connect"

## CAT5409WI-00-T1
designator U?
Quad Digital Potentiometer (POT) with 64 Tap and I2C Interface, -40 to 85 degC, 24-Pin SOIC, Pb-Free, Tape and Reel; Manufacturer: On Semiconductor; PartNumber: CAT5409WI-00-T1; # of Pots: 4; # of Taps: 64; VDD Max (V): 6; DatasheetVersion: Rev. 15; PackageVersion: Rev. O, 12/2008; PackageReference: SOIC-24-751BK-01; PackageDescription: 24-Pin Small Outline Integrated Circuit, Body 15.3 x 7.47 mm, Pitch 1.27 mm; Supplier 1: Digi-Key; Supplier Part Number 1: CAT5409WI-00-T1-ND; Supplier 2: Mouser; Supplier Part Number 2: 698-CAT5409WI-00-T1; Control Interface: I2C; Packing: Tape and Reel; RoHS: TRUE; Type: Potentiometer; Mounting Technology: Surface Mount; Code_JEDEC: MS-013; ComponentLink1Description: Manufacturer URL; ComponentLink1URL: http://www.onsemi.com/; ComponentLink2Description: Datasheet; ComponentLink2URL: http://www.onsemi.cn/pub_link/Collateral/CAT5409-D.PDF; ComponentLink3Description: Package Specification; ComponentLink3URL: http://www.onsemi.com/pub/Collateral/751BK.PDF
footprint ONSC-SOIC-24-751BK-01_N (SOIC, 24-Leads, Body 15.4x7.6mm, Pitch 1.27mm, IPC Medium Density)
footprint ONSC-SOIC-24-751BK-01_L (SOIC, 24-Leads, Body 15.4x7.6mm, Pitch 1.27mm, IPC High Density)
footprint ONSC-SOIC-24-751BK-01_M (SOIC, 24-Leads, Body 15.4x7.6mm, Pitch 1.27mm, IPC Low Density)
pins: 1 VCC (power) "Supply Voltage", 2 RL0 "Low Reference Terminal for Potentiometer 0", 3 RH0 "High Reference Terminal for Potentiometer 0", 4 RW0 "Wiper Terminal for Potentiometer 0", 5 A2 (in) "Device Address", 6 ~{WP} (in) "Write Protection", 7 SDA (io) "Serial Data Input/Output", 8 A1 (in) "Device Address", 9 RL1 "Low Reference Terminal for Potentiometer 1", 10 RH1 "High Reference Terminal for Potentiometer 1", 11 RW1 "Wiper Terminal for Potentiometer 1", 12 GND (power) "Ground", 13 NC "No Connect", 14 RW2 "Wiper Terminal forPotentiometer 2", 15 RH2 "High Reference Terminal for Potentiometer 2", 16 RL2 "Low Reference Terminal for Potentiometer 2", 17 SCL (in) "Bus Serial Clock", 18 A3 (in) "Device Address", 19 NC "No Connect", 20 A0 (in) "Device Address, LSB", 21 RW3 "Wiper Terminal for Potentiometer 3", 22 RH3 "High Reference Terminal for Potentiometer 3", 23 RL3 "Low Reference Terminal for Potentiometer 3", 24 NC "No Connect"

## CAT5409WI-10-T1
designator U?
Quad Digital Potentiometer (POT) with 64 Tap and I2C Interface, -40 to 85 degC, 24-Pin SOIC, Pb-Free, Tape and Reel; Manufacturer: On Semiconductor; PartNumber: CAT5409WI-10-T1; # of Pots: 4; # of Taps: 64; VDD Max (V): 6; DatasheetVersion: Rev. 15; PackageVersion: Rev. O, 12/2008; PackageReference: SOIC-24-751BK-01; PackageDescription: 24-Pin Small Outline Integrated Circuit, Body 15.3 x 7.47 mm, Pitch 1.27 mm; Supplier 1: Digi-Key; Supplier Part Number 1: CAT5409WI-10-T1CT-ND; Supplier 2: Digi-Key; Supplier Part Number 2: CAT5409WI-10-T1DKR-ND; Supplier 3: Mouser; Supplier Part Number 3: 698-CAT5409WI-10-T1; Control Interface: I2C; Packing: Tape and Reel; RoHS: TRUE; Type: Potentiometer; Mounting Technology: Surface Mount; Code_JEDEC: MS-013; ComponentLink1Description: Manufacturer URL; ComponentLink1URL: http://www.onsemi.com/; ComponentLink2Description: Datasheet; ComponentLink2URL: http://www.onsemi.cn/pub_link/Collateral/CAT5409-D.PDF; ComponentLink3Description: Package Specification; ComponentLink3URL: http://www.onsemi.com/pub/Collateral/751BK.PDF
footprint ONSC-SOIC-24-751BK-01_N (SOIC, 24-Leads, Body 15.4x7.6mm, Pitch 1.27mm, IPC Medium Density)
footprint ONSC-SOIC-24-751BK-01_L (SOIC, 24-Leads, Body 15.4x7.6mm, Pitch 1.27mm, IPC High Density)
footprint ONSC-SOIC-24-751BK-01_M (SOIC, 24-Leads, Body 15.4x7.6mm, Pitch 1.27mm, IPC Low Density)
pins: 1 VCC (power) "Supply Voltage", 2 RL0 "Low Reference Terminal for Potentiometer 0", 3 RH0 "High Reference Terminal for Potentiometer 0", 4 RW0 "Wiper Terminal for Potentiometer 0", 5 A2 (in) "Device Address", 6 ~{WP} (in) "Write Protection", 7 SDA (io) "Serial Data Input/Output", 8 A1 (in) "Device Address", 9 RL1 "Low Reference Terminal for Potentiometer 1", 10 RH1 "High Reference Terminal for Potentiometer 1", 11 RW1 "Wiper Terminal for Potentiometer 1", 12 GND (power) "Ground", 13 NC "No Connect", 14 RW2 "Wiper Terminal forPotentiometer 2", 15 RH2 "High Reference Terminal for Potentiometer 2", 16 RL2 "Low Reference Terminal for Potentiometer 2", 17 SCL (in) "Bus Serial Clock", 18 A3 (in) "Device Address", 19 NC "No Connect", 20 A0 (in) "Device Address, LSB", 21 RW3 "Wiper Terminal for Potentiometer 3", 22 RH3 "High Reference Terminal for Potentiometer 3", 23 RL3 "Low Reference Terminal for Potentiometer 3", 24 NC "No Connect"

## CAT5409WI-25-T1
designator U?
Quad Digital Potentiometer (POT) with 64 Tap and I2C Interface, -40 to 85 degC, 24-Pin SOIC, Pb-Free, Tape and Reel; Manufacturer: On Semiconductor; PartNumber: CAT5409WI-25-T1; # of Pots: 4; # of Taps: 64; VDD Max (V): 6; DatasheetVersion: Rev. 15; PackageVersion: Rev. O, 12/2008; PackageReference: SOIC-24-751BK-01; PackageDescription: 24-Pin Small Outline Integrated Circuit, Body 15.3 x 7.47 mm, Pitch 1.27 mm; Supplier 1: Digi-Key; Supplier Part Number 1: CAT5409WI-25-T1-ND; Supplier 2: Mouser; Supplier Part Number 2: 698-CAT5409WI-25-T1; Control Interface: I2C; Packing: Tape and Reel; RoHS: TRUE; Type: Potentiometer; Mounting Technology: Surface Mount; Code_JEDEC: MS-013; ComponentLink1Description: Manufacturer URL; ComponentLink1URL: http://www.onsemi.com/; ComponentLink2Description: Datasheet; ComponentLink2URL: http://www.onsemi.cn/pub_link/Collateral/CAT5409-D.PDF; ComponentLink3Description: Package Specification; ComponentLink3URL: http://www.onsemi.com/pub/Collateral/751BK.PDF
footprint ONSC-SOIC-24-751BK-01_N (SOIC, 24-Leads, Body 15.4x7.6mm, Pitch 1.27mm, IPC Medium Density)
footprint ONSC-SOIC-24-751BK-01_L (SOIC, 24-Leads, Body 15.4x7.6mm, Pitch 1.27mm, IPC High Density)
footprint ONSC-SOIC-24-751BK-01_M (SOIC, 24-Leads, Body 15.4x7.6mm, Pitch 1.27mm, IPC Low Density)
pins: 1 VCC (power) "Supply Voltage", 2 RL0 "Low Reference Terminal for Potentiometer 0", 3 RH0 "High Reference Terminal for Potentiometer 0", 4 RW0 "Wiper Terminal for Potentiometer 0", 5 A2 (in) "Device Address", 6 ~{WP} (in) "Write Protection", 7 SDA (io) "Serial Data Input/Output", 8 A1 (in) "Device Address", 9 RL1 "Low Reference Terminal for Potentiometer 1", 10 RH1 "High Reference Terminal for Potentiometer 1", 11 RW1 "Wiper Terminal for Potentiometer 1", 12 GND (power) "Ground", 13 NC "No Connect", 14 RW2 "Wiper Terminal forPotentiometer 2", 15 RH2 "High Reference Terminal for Potentiometer 2", 16 RL2 "Low Reference Terminal for Potentiometer 2", 17 SCL (in) "Bus Serial Clock", 18 A3 (in) "Device Address", 19 NC "No Connect", 20 A0 (in) "Device Address, LSB", 21 RW3 "Wiper Terminal for Potentiometer 3", 22 RH3 "High Reference Terminal for Potentiometer 3", 23 RL3 "Low Reference Terminal for Potentiometer 3", 24 NC "No Connect"

## CAT5409WI-50-T1
designator U?
Quad Digital Potentiometer (POT) with 64 Tap and I2C Interface, -40 to 85 degC, 24-Pin SOIC, Pb-Free, Tape and Reel; Manufacturer: On Semiconductor; PartNumber: CAT5409WI-50-T1; # of Pots: 4; # of Taps: 64; VDD Max (V): 6; DatasheetVersion: Rev. 15; PackageVersion: Rev. O, 12/2008; PackageReference: SOIC-24-751BK-01; PackageDescription: 24-Pin Small Outline Integrated Circuit, Body 15.3 x 7.47 mm, Pitch 1.27 mm; Supplier 1: Digi-Key; Supplier Part Number 1: CAT5409WI-50-T1-ND; Supplier 2: Mouser; Supplier Part Number 2: 698-CAT5409WI-50-T1; Control Interface: I2C; Packing: Tape and Reel; RoHS: TRUE; Type: Potentiometer; Mounting Technology: Surface Mount; Code_JEDEC: MS-013; ComponentLink1Description: Manufacturer URL; ComponentLink1URL: http://www.onsemi.com/; ComponentLink2Description: Datasheet; ComponentLink2URL: http://www.onsemi.cn/pub_link/Collateral/CAT5409-D.PDF; ComponentLink3Description: Package Specification; ComponentLink3URL: http://www.onsemi.com/pub/Collateral/751BK.PDF
footprint ONSC-SOIC-24-751BK-01_N (SOIC, 24-Leads, Body 15.4x7.6mm, Pitch 1.27mm, IPC Medium Density)
footprint ONSC-SOIC-24-751BK-01_L (SOIC, 24-Leads, Body 15.4x7.6mm, Pitch 1.27mm, IPC High Density)
footprint ONSC-SOIC-24-751BK-01_M (SOIC, 24-Leads, Body 15.4x7.6mm, Pitch 1.27mm, IPC Low Density)
pins: 1 VCC (power) "Supply Voltage", 2 RL0 "Low Reference Terminal for Potentiometer 0", 3 RH0 "High Reference Terminal for Potentiometer 0", 4 RW0 "Wiper Terminal for Potentiometer 0", 5 A2 (in) "Device Address", 6 ~{WP} (in) "Write Protection", 7 SDA (io) "Serial Data Input/Output", 8 A1 (in) "Device Address", 9 RL1 "Low Reference Terminal for Potentiometer 1", 10 RH1 "High Reference Terminal for Potentiometer 1", 11 RW1 "Wiper Terminal for Potentiometer 1", 12 GND (power) "Ground", 13 NC "No Connect", 14 RW2 "Wiper Terminal forPotentiometer 2", 15 RH2 "High Reference Terminal for Potentiometer 2", 16 RL2 "Low Reference Terminal for Potentiometer 2", 17 SCL (in) "Bus Serial Clock", 18 A3 (in) "Device Address", 19 NC "No Connect", 20 A0 (in) "Device Address, LSB", 21 RW3 "Wiper Terminal for Potentiometer 3", 22 RH3 "High Reference Terminal for Potentiometer 3", 23 RL3 "Low Reference Terminal for Potentiometer 3", 24 NC "No Connect"

## CAT5409YI00
designator U?
Quad Digital Potentiometer (POT) with 64 Tap and I2C Interface, -40 to 85 degC, 24-Pin TSSOP, Pb-Free, Tube; Manufacturer: On Semiconductor; PartNumber: CAT5409YI00; # of Pots: 4; # of Taps: 64; VDD Max (V): 6; DatasheetVersion: Rev. 15; PackageVersion: Rev. A, 03/2009; PackageReference: TSSOP-24-948AR-01; PackageDescription: 24-Pin Small Outline Package, Body 7.8 x 4.4 mm, Pitch 0.65 mm; Supplier 1: Mouser; Supplier Part Number 1: 698-CAT5409YI-00; Control Interface: I2C; Packing: Tube; RoHS: TRUE; Type: Potentiometer; Mounting Technology: Surface Mount; Code_JEDEC: MO-153; ComponentLink1Description: Manufacturer URL; ComponentLink1URL: http://www.onsemi.com/; ComponentLink2Description: Datasheet; ComponentLink2URL: http://www.onsemi.cn/pub_link/Collateral/CAT5409-D.PDF; ComponentLink3Description: Package Specification; ComponentLink3URL: http://www.onsemi.com/pub_link/Collateral/948AR.PDF
footprint ONSC-TSSOP-24-948AR-01_N (SOP, 24-Leads, Body 7.9x4.5mm, Pitch 0.65mm, IPC Medium Density)
footprint ONSC-TSSOP-24-948AR-01_L (SOP, 24-Leads, Body 7.9x4.5mm, Pitch 0.65mm, IPC High Density)
footprint ONSC-TSSOP-24-948AR-01_M (SOP, 24-Leads, Body 7.9x4.5mm, Pitch 0.65mm, IPC Low Density)
pins: 1 SDA (io) "Serial Data Input/Output", 2 A1 (in) "Device Address", 3 RL1 "Low Reference Terminal for Potentiometer 1", 4 RH1 "High Reference Terminal for Potentiometer 1", 5 RW1 "Wiper Terminal for Potentiometer 1", 6 GND (power) "Ground", 7 NC "No Connect", 8 RW2 "Wiper Terminal forPotentiometer 2", 9 RH2 "High Reference Terminal for Potentiometer 2", 10 RL2 "Low Reference Terminal for Potentiometer 2", 11 SCL (in) "Bus Serial Clock", 12 A3 (in) "Device Address", 13 NC "No Connect", 14 A0 (in) "Device Address, LSB", 15 RW3 "Wiper Terminal for Potentiometer 3", 16 RH3 "High Reference Terminal for Potentiometer 3", 17 RL3 "Low Reference Terminal for Potentiometer 3", 18 NC "No Connect", 19 VCC (power) "Supply Voltage", 20 RL0 "Low Reference Terminal for Potentiometer 0", 21 RH0 "High Reference Terminal for Potentiometer 0", 22 RW0 "Wiper Terminal for Potentiometer 0", 23 A2 (in) "Device Address", 24 ~{WP} (in) "Write Protection"

## CAT5409YI10
designator U?
Quad Digital Potentiometer (POT) with 64 Tap and I2C Interface, -40 to 85 degC, 24-Pin TSSOP, Pb-Free, Tube; Manufacturer: On Semiconductor; PartNumber: CAT5409YI10; # of Pots: 4; # of Taps: 64; VDD Max (V): 6; DatasheetVersion: Rev. 15; PackageVersion: Rev. A, 03/2009; PackageReference: TSSOP-24-948AR-01; PackageDescription: 24-Pin Small Outline Package, Body 7.8 x 4.4 mm, Pitch 0.65 mm; Supplier 1: Mouser; Supplier Part Number 1: 698-CAT5409YI-10; Control Interface: I2C; Packing: Tube; RoHS: TRUE; Type: Potentiometer; Mounting Technology: Surface Mount; Code_JEDEC: MO-153; ComponentLink1Description: Manufacturer URL; ComponentLink1URL: http://www.onsemi.com/; ComponentLink2Description: Datasheet; ComponentLink2URL: http://www.onsemi.cn/pub_link/Collateral/CAT5409-D.PDF; ComponentLink3Description: Package Specification; ComponentLink3URL: http://www.onsemi.com/pub_link/Collateral/948AR.PDF
footprint ONSC-TSSOP-24-948AR-01_N (SOP, 24-Leads, Body 7.9x4.5mm, Pitch 0.65mm, IPC Medium Density)
footprint ONSC-TSSOP-24-948AR-01_L (SOP, 24-Leads, Body 7.9x4.5mm, Pitch 0.65mm, IPC High Density)
footprint ONSC-TSSOP-24-948AR-01_M (SOP, 24-Leads, Body 7.9x4.5mm, Pitch 0.65mm, IPC Low Density)
pins: 1 SDA (io) "Serial Data Input/Output", 2 A1 (in) "Device Address", 3 RL1 "Low Reference Terminal for Potentiometer 1", 4 RH1 "High Reference Terminal for Potentiometer 1", 5 RW1 "Wiper Terminal for Potentiometer 1", 6 GND (power) "Ground", 7 NC "No Connect", 8 RW2 "Wiper Terminal forPotentiometer 2", 9 RH2 "High Reference Terminal for Potentiometer 2", 10 RL2 "Low Reference Terminal for Potentiometer 2", 11 SCL (in) "Bus Serial Clock", 12 A3 (in) "Device Address", 13 NC "No Connect", 14 A0 (in) "Device Address, LSB", 15 RW3 "Wiper Terminal for Potentiometer 3", 16 RH3 "High Reference Terminal for Potentiometer 3", 17 RL3 "Low Reference Terminal for Potentiometer 3", 18 NC "No Connect", 19 VCC (power) "Supply Voltage", 20 RL0 "Low Reference Terminal for Potentiometer 0", 21 RH0 "High Reference Terminal for Potentiometer 0", 22 RW0 "Wiper Terminal for Potentiometer 0", 23 A2 (in) "Device Address", 24 ~{WP} (in) "Write Protection"

## CAT5409YI25
designator U?
Quad Digital Potentiometer (POT) with 64 Tap and I2C Interface, -40 to 85 degC, 24-Pin TSSOP, Pb-Free, Tube; Manufacturer: On Semiconductor; PartNumber: CAT5409YI25; # of Pots: 4; # of Taps: 64; VDD Max (V): 6; DatasheetVersion: Rev. 15; PackageVersion: Rev. A, 03/2009; PackageReference: TSSOP-24-948AR-01; PackageDescription: 24-Pin Small Outline Package, Body 7.8 x 4.4 mm, Pitch 0.65 mm; Supplier 1: Mouser; Supplier Part Number 1: 698-CAT5409YI-25; Control Interface: I2C; Packing: Tube; RoHS: TRUE; Type: Potentiometer; Mounting Technology: Surface Mount; Code_JEDEC: MO-153; ComponentLink1Description: Manufacturer URL; ComponentLink1URL: http://www.onsemi.com/; ComponentLink2Description: Datasheet; ComponentLink2URL: http://www.onsemi.cn/pub_link/Collateral/CAT5409-D.PDF; ComponentLink3Description: Package Specification; ComponentLink3URL: http://www.onsemi.com/pub_link/Collateral/948AR.PDF
footprint ONSC-TSSOP-24-948AR-01_N (SOP, 24-Leads, Body 7.9x4.5mm, Pitch 0.65mm, IPC Medium Density)
footprint ONSC-TSSOP-24-948AR-01_L (SOP, 24-Leads, Body 7.9x4.5mm, Pitch 0.65mm, IPC High Density)
footprint ONSC-TSSOP-24-948AR-01_M (SOP, 24-Leads, Body 7.9x4.5mm, Pitch 0.65mm, IPC Low Density)
pins: 1 SDA (io) "Serial Data Input/Output", 2 A1 (in) "Device Address", 3 RL1 "Low Reference Terminal for Potentiometer 1", 4 RH1 "High Reference Terminal for Potentiometer 1", 5 RW1 "Wiper Terminal for Potentiometer 1", 6 GND (power) "Ground", 7 NC "No Connect", 8 RW2 "Wiper Terminal forPotentiometer 2", 9 RH2 "High Reference Terminal for Potentiometer 2", 10 RL2 "Low Reference Terminal for Potentiometer 2", 11 SCL (in) "Bus Serial Clock", 12 A3 (in) "Device Address", 13 NC "No Connect", 14 A0 (in) "Device Address, LSB", 15 RW3 "Wiper Terminal for Potentiometer 3", 16 RH3 "High Reference Terminal for Potentiometer 3", 17 RL3 "Low Reference Terminal for Potentiometer 3", 18 NC "No Connect", 19 VCC (power) "Supply Voltage", 20 RL0 "Low Reference Terminal for Potentiometer 0", 21 RH0 "High Reference Terminal for Potentiometer 0", 22 RW0 "Wiper Terminal for Potentiometer 0", 23 A2 (in) "Device Address", 24 ~{WP} (in) "Write Protection"